# EAGLE library part DAC8532 (library jason-test)
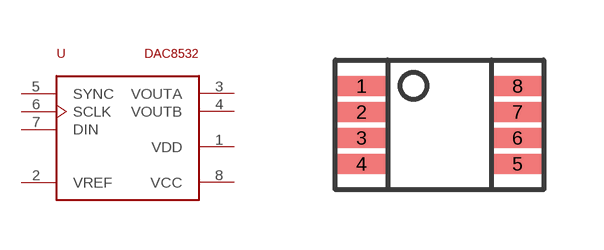
[diagram p13: symbol with the pads of MSOP8; footprint MSOP8]

Designator prefix -

## DAC8532  [MSOP8]
1  VDD  pwr
2  VREF
3  VOUTA  out
4  VOUTB  out
5  SYNC  in
6  SCLK  in
7  DIN  in
8  VCC  pwr

## Footprint MSOP8 (pad centres in mm)
smd 1.27 x 0.5: 1 -1.95,0.975; 2 -1.95,0.325; 3 -1.95,-0.325; 4 -1.95,-0.975; 5 1.95,-0.975; 6 1.95,-0.325; 7 1.95,0.325; 8 1.95,0.975